# Altium footprint library CONN(2.54mm, 2x15, 30-POS, DUAL-EDGE, RA, TH).PcbLib: 1 footprints
Each footprint in its own frame and in the unit in brackets; x right, y up, seen from the top. Pads: shape width x height; smd on the part's side, far side on the other; paste and mask are expansions set on the pad; w line width, h text height; cw(c..) or ccw(c..) is an arc to the next point about the centre after c.
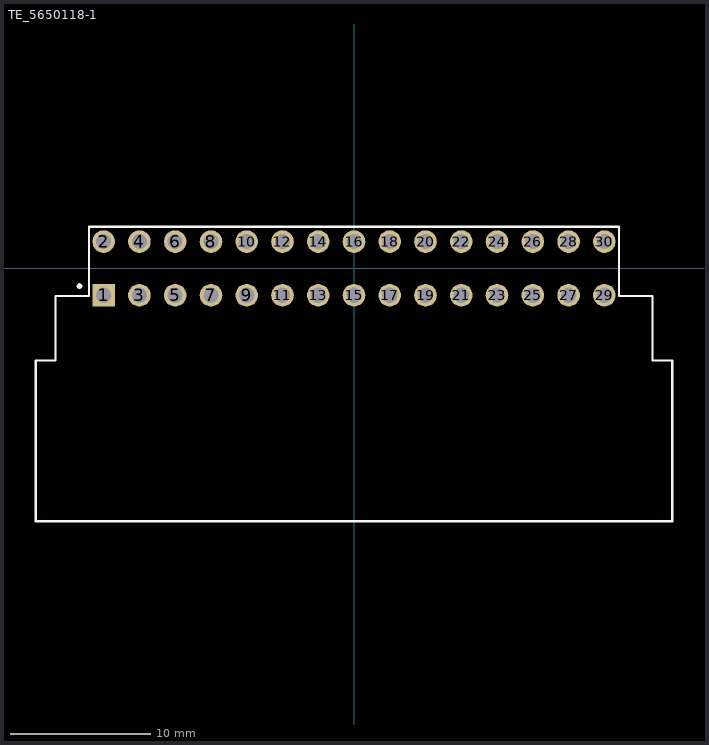
[diagram p0: the footprint, top view; thin cyan lines are the x and y axes]

## TE_5650118-1 [mm]
height 9.48
pads (30):
  rect 1.605x1.605 / inner round 1.605 / far side rect 1.605x1.605 hole 1.07: 1(-17.78,-1.905)
  round 1.605 hole 1.07: 2(-17.78,1.905) 3(-15.24,-1.905) 4(-15.24,1.905) 5(-12.7,-1.905) 6(-12.7,1.905) 7(-10.16,-1.905) 8(-10.16,1.905) 9(-7.62,-1.905) 10(-7.62,1.905) 11(-5.08,-1.905) 12(-5.08,1.905) 13(-2.54,-1.905) 14(-2.54,1.905) 15(0,-1.905) 16(0,1.905) 17(2.54,-1.905) 18(2.54,1.905) 19(5.08,-1.905) 20(5.08,1.905) 21(7.62,-1.905) 22(7.62,1.905) 23(10.16,-1.905) 24(10.16,1.905) 25(12.7,-1.905) 26(12.7,1.905) 27(15.24,-1.905) 28(15.24,1.905) 29(17.78,-1.905) 30(17.78,1.905)
Top Overlay:
  circle w0.2: c-19.5,-1.25 r0.1
  lines w0.152: -22.6,-17.955 -22.6,-6.535 -21.205,-6.535 -21.205,-1.961 -18.835,-1.961 -18.835,2.96 18.835,2.96 18.835,-1.961 21.205,-1.961 21.205,-6.535 22.6,-6.535 22.6,-17.955 -22.6,-17.955
3D body "step_temp.STEP": height 9.37, standoff -2.26, extent -22.352,-17.78 22.352,2.146